# EAGLE library part INA169QPWRQ1 (library INA169-SOP8)
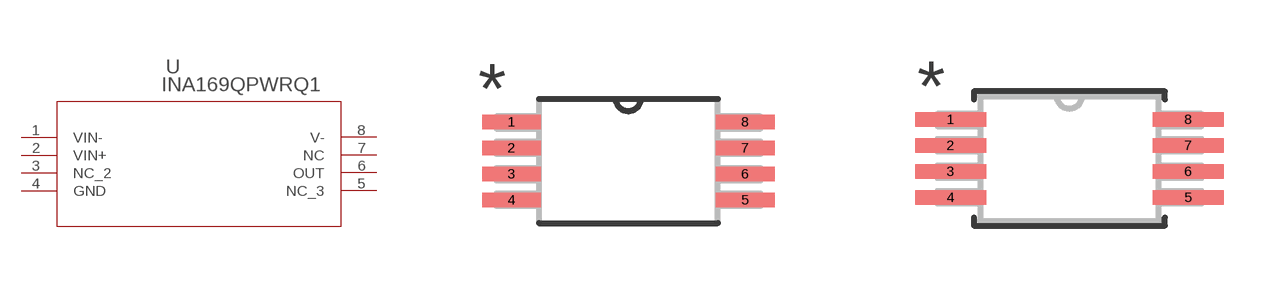
[diagram p0: symbol with the pads of PW8; footprints PW8, PW8-M]

Designator prefix U

## INA169QPWRQ1 (COPYRIGHT: Copyright (C) 2022 Ultra Librarian. All rights reserved.; DIGI-KEY_PART_NUMBER_1: 296-17202-1-ND; DIGI-KEY_PART_NUMBER_2: 296-17202-2-ND; DIGI-KEY_PART_NUMBER_3: 296-17202-6-ND; DIGI-KEY_PART_NUMBER_4: 2156-INA169QPWRQ1-ND; MANUFACTURER_PART_NUMBER: INA169QPWRQ1; MFR_NAME: Texas Instruments)  [PW8]
1  VIN-  in
2  VIN+  in
3  NC_2  pas
4  GND  pwr
5  NC_3  pas
6  OUT  out
7  NC  pas
8  V-  pwr

## INA169QPWRQ1PW8-M (COPYRIGHT: Copyright (C) 2022 Ultra Librarian. All rights reserved.; DIGI-KEY_PART_NUMBER_1: 296-17202-1-ND; DIGI-KEY_PART_NUMBER_2: 296-17202-2-ND; DIGI-KEY_PART_NUMBER_3: 296-17202-6-ND; DIGI-KEY_PART_NUMBER_4: 2156-INA169QPWRQ1-ND; MANUFACTURER_PART_NUMBER: INA169QPWRQ1; MFR_NAME: Texas Instruments)  [PW8-M]
Pads as for PW8

## INA169QPWRQ1PW8-L (COPYRIGHT: Copyright (C) 2022 Ultra Librarian. All rights reserved.; DIGI-KEY_PART_NUMBER_1: 296-17202-1-ND; DIGI-KEY_PART_NUMBER_2: 296-17202-2-ND; DIGI-KEY_PART_NUMBER_3: 296-17202-6-ND; DIGI-KEY_PART_NUMBER_4: 2156-INA169QPWRQ1-ND; MANUFACTURER_PART_NUMBER: INA169QPWRQ1; MFR_NAME: Texas Instruments)  [PW8-L]
Pads as for PW8

## Footprint PW8 (pad centres in mm)
smd 1.473 x 0.356: 1 -2.921,0.975; 2 -2.921,0.325; 3 -2.921,-0.325; 4 -2.921,-0.975; 5 2.921,-0.975; 6 2.921,-0.325; 7 2.921,0.325; 8 2.921,0.975

## Footprint PW8-M (pad centres in mm)
smd 1.778 x 0.356: 1 -2.972,0.975; 2 -2.972,0.325; 3 -2.972,-0.325; 4 -2.972,-0.975; 5 2.972,-0.975; 6 2.972,-0.325; 7 2.972,0.325; 8 2.972,0.975

## Footprint PW8-L (pad centres in mm)
smd 1.168 x 0.305: 1 -2.87,0.975; 2 -2.87,0.325; 3 -2.87,-0.325; 4 -2.87,-0.975; 5 2.87,-0.975; 6 2.87,-0.325; 7 2.87,0.325; 8 2.87,0.975